# EAGLE library part TEENSY_35 (library teensy35NoInside)
otomasi.sv.ugm.ac.id
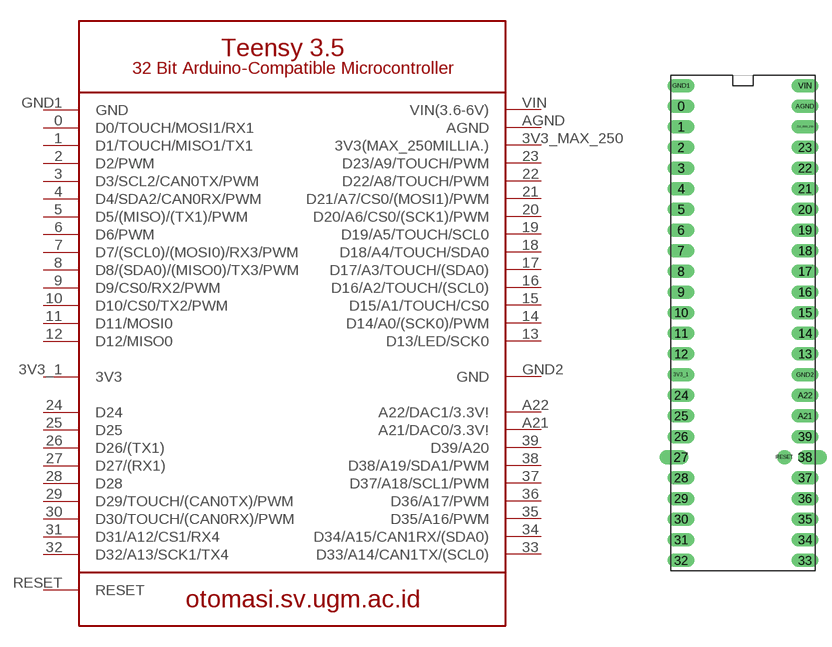
[diagram p0: symbol with the pads of TEENSY_35; footprint TEENSY_35]

Designator prefix -

## TEENSY_35TEENSY_3.5  [TEENSY_35]
0  D0/TOUCH/MOSI1/RX1
1  D1/TOUCH/MISO1/TX1
2  D2/PWM
3  D3/SCL2/CAN0TX/PWM
3V3_1  3V3  pwr
3V3_MAX_250  3V3(MAX_250MILLIA.)
4  D4/SDA2/CAN0RX/PWM
5  D5/(MISO)/(TX1)/PWM
6  D6/PWM
7  D7/(SCL0)/(MOSI0)/RX3/PWM
8  D8/(SDA0)/(MISO0)/TX3/PWM
9  D9/CS0/RX2/PWM
10  D10/CS0/TX2/PWM
11  D11/MOSI0
12  D12/MISO0
13  D13/LED/SCK0
14  D14/A0/(SCK0)/PWM
15  D15/A1/TOUCH/CS0
16  D16/A2/TOUCH/(SCL0)
17  D17/A3/TOUCH/(SDA0)
18  D18/A4/TOUCH/SDA0
19  D19/A5/TOUCH/SCL0
20  D20/A6/CS0/(SCK1)/PWM
21  D21/A7/CS0/(MOSI1)/PWM
22  D22/A8/TOUCH/PWM
23  D23/A9/TOUCH/PWM
24  D24
25  D25
26  D26/(TX1)
27  D27/(RX1)
28  D28
29  D29/TOUCH/(CAN0TX)/PWM
30  D30/TOUCH/(CAN0RX)/PWM
31  D31/A12/CS1/RX4
32  D32/A13/SCK1/TX4
33  D33/A14/CAN1TX/(SCL0)
34  D34/A15/CAN1RX/(SDA0)
35  D35/A16/PWM
36  D36/A17/PWM
37  D37/A18/SCL1/PWM
38  D38/A19/SDA1/PWM
39  D39/A20
A21  A21/DAC0/3.3V!
A22  A22/DAC1/3.3V!
AGND  AGND  pwr
GND1  GND  pwr
GND2  GND  pwr
RESET  RESET
VIN  VIN(3.6-6V)  pwr

## Footprint TEENSY_35 (pad centres in mm)
otomasi.sv.ugm.ac.id
drill 0.965 pad 1.676 long: 0 -7.62,5.08; 1 -7.62,2.54; 2 -7.62,0; 3 -7.62,-2.54; 3V3_1 -7.62,-27.94; 3V3_MAX_250 7.62,2.54; 4 -7.62,-5.08; 5 -7.62,-7.62; 6 -7.62,-10.16; 7 -7.62,-12.7; 8 -7.62,-15.24; 9 -7.62,-17.78; 10 -7.62,-20.32; 11 -7.62,-22.86; 12 -7.62,-25.4; 13 7.62,-25.4; 14 7.62,-22.86; 15 7.62,-20.32; 16 7.62,-17.78; 17 7.62,-15.24; 18 7.62,-12.7; 19 7.62,-10.16; 20 7.62,-7.62; 21 7.62,-5.08; 22 7.62,-2.54; 23 7.62,0; 24 -7.62,-30.48; 25 -7.62,-33.02; 26 -7.62,-35.56; 28 -7.62,-40.64; 29 -7.62,-43.18; 30 -7.62,-45.72; 31 -7.62,-48.26; 32 -7.62,-50.8; 33 7.62,-50.8; 34 7.62,-48.26; 35 7.62,-45.72; 36 7.62,-43.18; 37 7.62,-40.64; 39 7.62,-35.56; A21 7.62,-33.02; A22 7.62,-30.48; AGND 7.62,5.08; GND1 -7.62,7.62; GND2 7.62,-27.94; VIN 7.62,7.62
drill 0.965 pad 1.778 offset: 27 -7.62,-38.1; 38 7.62,-38.1
drill 0.9 pad 1.778: RESET 5.08,-38.1